# EAGLE library part USB-C-2.0 (library USB-Connecters)
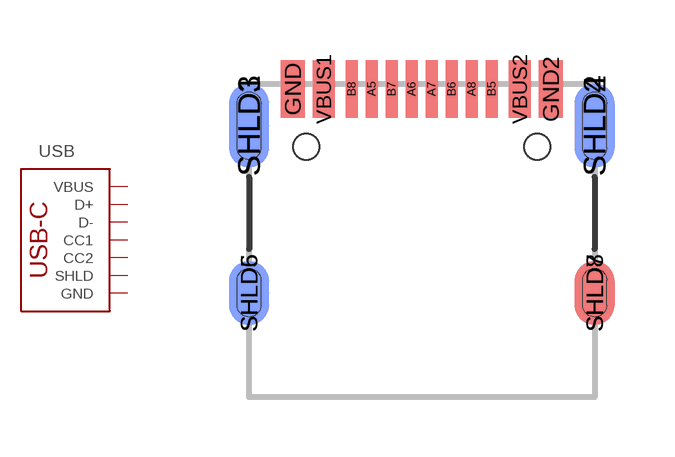
[diagram p0: symbol with the pads of USB-C-2.0; footprint USB-C-2.0]

Designator prefix USB

## USB-C-2.0  [USB-C-2.0]
A5  CC1
A6  D+
A7  D-
B5  CC2
B6  D+
B7  D-
GND  GND
GND2  GND
SHLD1  SHLD
SHLD2  SHLD
SHLD3  SHLD
SHLD4  SHLD
SHLD5  SHLD
SHLD6  SHLD
SHLD7  SHLD
SHLD8  SHLD
VBUS1  VBUS
VBUS2  VBUS

## Footprint USB-C-2.0 (pad centres in mm)
smd 0.3 x 1.45: A5 -1.25,7.695; A6 -0.25,7.695; A7 0.25,7.695; A8 1.25,7.695; B5 1.75,7.695; B6 0.75,7.695; B7 -0.75,7.695; B8 -1.75,7.695
smd 0.6 x 1.45: GND -3.225,7.695; GND2 3.225,7.695
smd 1 x 2.1: SHLD1 -4.32,6.78; SHLD2 4.32,6.78
smd 1 x 2.1 bottom: SHLD3 -4.32,6.78; SHLD4 4.32,6.78
smd 1 x 1.6: SHLD5 -4.32,2.6; SHLD8 4.32,2.6
smd 1 x 1.6 bottom: SHLD6 -4.32,2.6; SHLD7 4.32,2.6
smd 0.55 x 1.45: VBUS1 -2.45,7.695; VBUS2 2.45,7.695
hole 0.65 at -2.89,6.25
hole 0.65 at 2.89,6.25